# EAGLE library part GM5WA94310A (library led)
Chip LED RGB Source: http://document.sharpsma.com/files/GM5WA94310A_SS.pdf
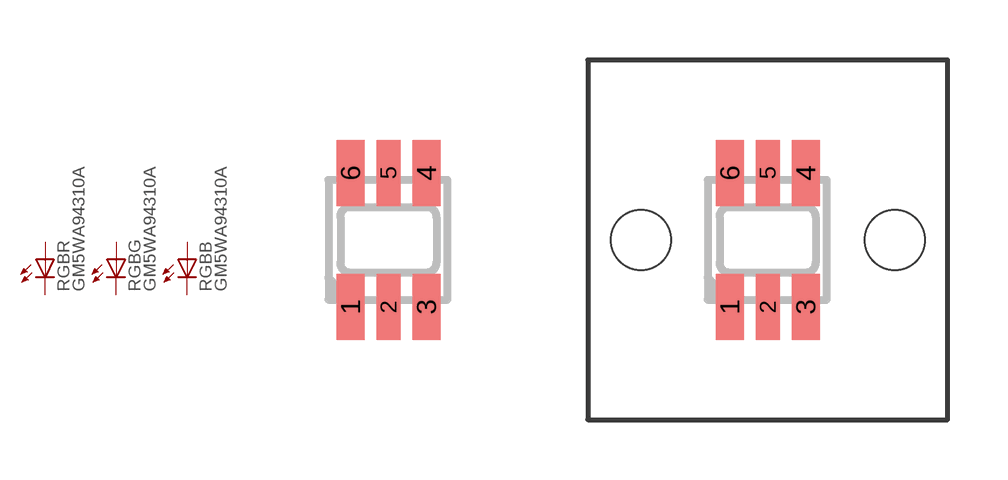
[diagram p0: symbol with the pads of GM5WA94310A; footprints GM5WA94310A, LED_MIT_DIFUSOR]

Designator prefix RGB; gates B=LED G=LED R=LED

## GM5WA94310A  [GM5WA94310A]
1  B:C  pas
2  G:C  pas
3  R:C  pas
4  R:A  pas
5  G:A  pas
6  B:A  pas

## GM5WA94310AMIT_DIFUSOR  [LED_MIT_DIFUSOR]
Pads as for GM5WA94310A

## Footprint GM5WA94310A (pad centres in mm)
Chip LED RGB Source: http://document.sharpsma.com/files/GM5WA94310A_SS.pdf
smd 0.7 x 1.65: 1 -0.95,-1.675; 3 0.95,-1.675; 4 0.95,1.675; 6 -0.95,1.675
smd 0.6 x 1.65: 2 0,-1.675; 5 0,1.675

## Footprint LED_MIT_DIFUSOR (pad centres in mm)
smd 0.7 x 1.65: 1 -0.95,-1.675; 3 0.95,-1.675; 4 0.95,1.675; 6 -0.95,1.675
smd 0.6 x 1.65: 2 0,-1.675; 5 0,1.675
hole 1.5 at -3.175,0
hole 1.5 at 3.175,0